# EAGLE library part RES-NET-742C163103JP (library eagleparts)
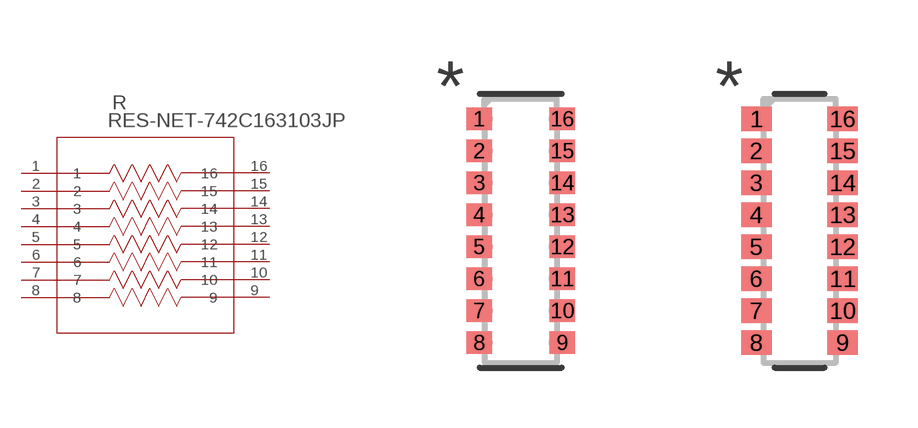
[diagram p8: symbol with the pads of RES_CTS74X_6P4X1P6_CTS; footprints RES_CTS74X_6P4X1P6_CTS, RES_CTS74X_6P4X1P6_CTS-M]

Designator prefix R

## RES-NET-742C163103JPRES_CTS74X_6P4X1P6_CTS (COPYRIGHT: Copyright (C) 2023 Ultra Librarian. All rights reserved.; MANUFACTURER_PART_NUMBER: 742C163103JP; MFR_NAME: CTS Components)  [RES_CTS74X_6P4X1P6_CTS]
1  1  pas
2  2  pas
3  3  pas
4  4  pas
5  5  pas
6  6  pas
7  7  pas
8  8  pas
9  9  pas
10  10  pas
11  11  pas
12  12  pas
13  13  pas
14  14  pas
15  15  pas
16  16  pas

## RES-NET-742C163103JPRES_CTS74X_6P4X1P6_CTS-M (COPYRIGHT: Copyright (C) 2023 Ultra Librarian. All rights reserved.; MANUFACTURER_PART_NUMBER: 742C163103JP; MFR_NAME: CTS Components)  [RES_CTS74X_6P4X1P6_CTS-M]
Pads as for RES_CTS74X_6P4X1P6_CTS

## RES-NET-742C163103JPRES_CTS74X_6P4X1P6_CTS-L (COPYRIGHT: Copyright (C) 2023 Ultra Librarian. All rights reserved.; MANUFACTURER_PART_NUMBER: 742C163103JP; MFR_NAME: CTS Components)  [RES_CTS74X_6P4X1P6_CTS-L]
Pads as for RES_CTS74X_6P4X1P6_CTS

## Footprint RES_CTS74X_6P4X1P6_CTS (pad centres in mm)
smd 0.635 x 0.559: 1 -1.041,2.8; 2 -1.041,2; 3 -1.041,1.2; 4 -1.041,0.4; 5 -1.041,-0.4; 6 -1.041,-1.2; 7 -1.041,-2; 8 -1.041,-2.8; 9 1.041,-2.8; 10 1.041,-2; 11 1.041,-1.2; 12 1.041,-0.4; 13 1.041,0.4; 14 1.041,1.2; 15 1.041,2; 16 1.041,2.8

## Footprint RES_CTS74X_6P4X1P6_CTS-M (pad centres in mm)
smd 0.762 x 0.61: 1 -1.079,2.8; 2 -1.079,2; 3 -1.079,1.2; 4 -1.079,0.4; 5 -1.079,-0.4; 6 -1.079,-1.2; 7 -1.079,-2; 8 -1.079,-2.8; 9 1.079,-2.8; 10 1.079,-2; 11 1.079,-1.2; 12 1.079,-0.4; 13 1.079,0.4; 14 1.079,1.2; 15 1.079,2; 16 1.079,2.8

## Footprint RES_CTS74X_6P4X1P6_CTS-L (pad centres in mm)
smd 0.508 x 0.559: 1 -1.003,2.8; 2 -1.003,2; 3 -1.003,1.2; 4 -1.003,0.4; 5 -1.003,-0.4; 6 -1.003,-1.2; 7 -1.003,-2; 8 -1.003,-2.8; 9 1.003,-2.8; 10 1.003,-2; 11 1.003,-1.2; 12 1.003,-0.4; 13 1.003,0.4; 14 1.003,1.2; 15 1.003,2; 16 1.003,2.8